# EAGLE library part JT-DB-EPC (library audio)
Jensen 12:1 Direct Box Transformer
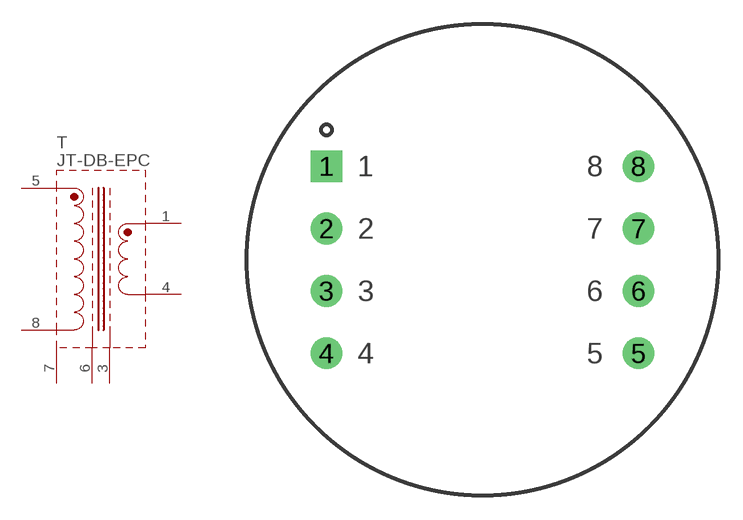
[diagram p0: symbol with the pads of PC-6; footprint PC-6]

Designator prefix T

## JT-DB-EPC  [PC-6]
1  SEC+  pas
3  SEC-SHIELD  pas
4  SEC-  pas
5  PRI+  pas
6  PRI-SHIELD  pas
7  CAGE  pas
8  PRI-  pas

## Footprint PC-6 (pad centres in mm)
drill 1.016 pad 1.93 square: 1 -9.525,5.715
drill 1.016 pad 1.93 round: 2 -9.525,1.905; 3 -9.525,-1.905; 4 -9.525,-5.715; 5 9.525,-5.715; 6 9.525,-1.905; 7 9.525,1.905; 8 9.525,5.715